# Altium footprint library MSTBV_2.5_5-08.PcbLib: 12 footprints
Each footprint in its own frame and in the unit in brackets; x right, y up, seen from the top. Pads: shape width x height; smd on the part's side, far side on the other; paste and mask are expansions set on the pad; w line width, h text height; cw(c..) or ccw(c..) is an arc to the next point about the centre after c.
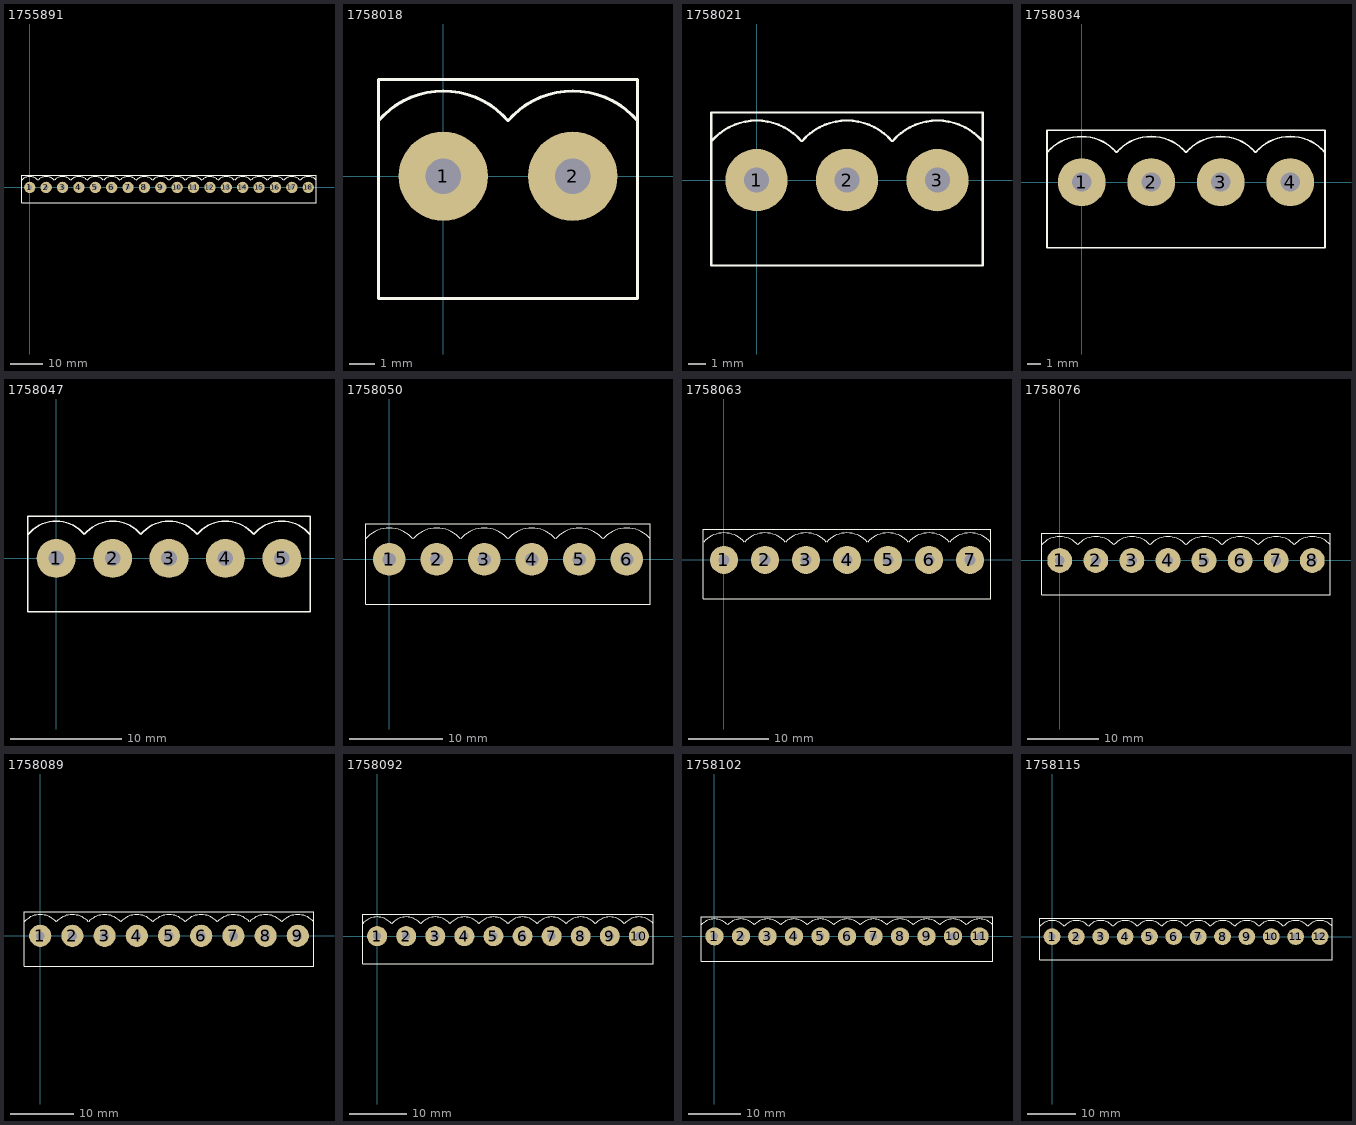
[diagram p0: the footprints below, top view; thin cyan lines are the x and y axes]

## 1755891 [mm] "TERM BLOCK HDR 18POS VERT 5.08MM"
pads (18):
  round 3.5 hole 1.4: 1(0,0) 2(5.08,0) 3(10.16,0) 4(15.24,0) 5(20.32,0) 6(25.4,0) 7(30.48,0) 8(35.56,0) 9(40.64,0) 10(45.72,0) 11(50.8,0) 12(55.88,0) 13(60.96,0) 14(66.04,0) 15(71.12,0) 16(76.2,0) 17(81.28,0) 18(86.36,0)
Top Overlay:
  lines w0.127: -2.527,2.189 cw(c0,0) 2.527,2.189 ; 2.553,2.189 cw(c5.08,0) 7.607,2.189 ; 7.633,2.189 cw(c10.16,0) 12.687,2.189 ; 12.713,2.189 cw(c15.24,0) 17.767,2.189 ; 17.793,2.189 cw(c20.32,0) 22.847,2.189 ; 22.873,2.189 cw(c25.4,0) 27.927,2.189 ; 27.953,2.189 cw(c30.48,0) 33.007,2.189 ; 33.033,2.189 cw(c35.56,0) 38.087,2.189 ; 38.1,-4.8 88.9,-4.8 88.9,3.8 38.1,3.8 ; 43.18,-4.8 -2.54,-4.8 -2.54,3.8 43.18,3.8 ; 43.193,2.189 cw(c45.72,0) 48.247,2.189 ; 48.273,2.189 cw(c50.8,0) 53.327,2.189 ; 53.353,2.189 cw(c55.88,0) 58.407,2.189 ; 58.433,2.189 cw(c60.96,0) 63.487,2.189 ; 63.513,2.189 cw(c66.04,0) 68.567,2.189 ; 68.593,2.189 cw(c71.12,0) 73.647,2.189 ; 73.673,2.189 cw(c76.2,0) 78.727,2.189 ; 78.753,2.189 cw(c81.28,0) 83.807,2.189 ; 83.833,2.189 cw(c86.36,0) 88.887,2.189 ; 38.113,2.189 cw(c40.64,0) 43.167,2.189 ccw(c40.64,0) 38.113,2.189
3D body "1753453.stp": height 12, standoff -3.9, extent 28.06,-4.8 43.06,3.8
3D body "1753453.stp": height 12, standoff -3.9, extent -2.42,-4.8 12.58,3.8
3D body "1753453.stp": height 12, standoff -3.9, extent 7.74,-4.8 22.74,3.8
3D body "1753453.stp": height 12, standoff -3.9, extent 17.9,-4.8 32.9,3.8
3D body "1753453.stp": height 12, standoff -3.9, extent 58.54,-4.8 73.54,3.8
3D body "1753453.stp": height 12, standoff -3.9, extent 68.7,-4.8 83.7,3.8
3D body "1753437.stp": height 12, standoff -3.9, extent 78.82,-4.79 88.82,3.81
3D body "1753453.stp": height 12, standoff -3.9, extent 38.22,-4.8 53.22,3.8
3D body "1753453.stp": height 12, standoff -3.9, extent 48.38,-4.8 63.38,3.8

## 1758018 [mm]
pads (2):
  round 3.5 hole 1.4: 1(0,0) 2(5.08,0)
Top Overlay:
  lines w0.127: -2.527,2.189 cw(c0,0) 2.527,2.189 ; 2.553,2.189 cw(c5.08,0) 7.607,2.189 ; -2.54,-4.8 7.62,-4.8 7.62,3.8 -2.54,3.8 -2.54,-4.8
3D body "1753437.stp": height 12, standoff -3.9, extent -2.46,-4.79 7.54,3.81

## 1758021 [mm]
pads (3):
  round 3.5 hole 1.4: 1(0,0) 2(5.08,0) 3(10.16,0)
Top Overlay:
  lines w0.127: -2.527,2.189 cw(c0,0) 2.527,2.189 ; 2.553,2.189 cw(c5.08,0) 7.607,2.189 ; 7.633,2.189 cw(c10.16,0) 12.687,2.189 ; -2.54,-4.8 -2.54,3.8 12.7,3.8 12.7,-4.8 -2.54,-4.8
3D body "1753453.stp": height 12, standoff -3.9, extent -2.42,-4.8 12.58,3.8

## 1758034 [mm]
pads (4):
  round 3.5 hole 1.4: 1(0,0) 2(5.08,0) 3(10.16,0) 4(15.24,0)
Top Overlay:
  lines w0.127: -2.527,2.189 cw(c0,0) 2.527,2.189 ; 2.553,2.189 cw(c5.08,0) 7.607,2.189 ; 7.633,2.189 cw(c10.16,0) 12.687,2.189 ; 12.713,2.189 cw(c15.24,0) 17.767,2.189 ; -2.54,-4.8 17.78,-4.8 17.78,3.8 -2.54,3.8 -2.54,-4.8
3D body "1753437.stp": height 12, standoff -3.9, extent 7.7,-4.79 17.7,3.81
3D body "1753453.stp": height 12, standoff -3.9, extent -2.42,-4.8 12.58,3.8

## 1758047 [mm]
pads (5):
  round 3.5 hole 1.4: 1(0,0) 2(5.08,0) 3(10.16,0) 4(15.24,0) 5(20.32,0)
Top Overlay:
  lines w0.127: -2.527,2.189 cw(c0,0) 2.527,2.189 ; 2.553,2.189 cw(c5.08,0) 7.607,2.189 ; 7.633,2.189 cw(c10.16,0) 12.687,2.189 ; 12.713,2.189 cw(c15.24,0) 17.767,2.189 ; 17.793,2.189 cw(c20.32,0) 22.847,2.189 ; -2.54,-4.8 -2.54,3.8 22.86,3.8 22.86,-4.8 -2.54,-4.8
3D body "1753453.stp": height 12, standoff -3.9, extent -2.42,-4.8 12.58,3.8
3D body "1753453.stp": height 12, standoff -3.9, extent 7.74,-4.8 22.74,3.8

## 1758050 [mm]
pads (6):
  round 3.5 hole 1.4: 1(0,0) 2(5.08,0) 3(10.16,0) 4(15.24,0) 5(20.32,0) 6(25.4,0)
Top Overlay:
  lines w0.127: -2.527,2.189 cw(c0,0) 2.527,2.189 ; 2.553,2.189 cw(c5.08,0) 7.607,2.189 ; 7.633,2.189 cw(c10.16,0) 12.687,2.189 ; 12.713,2.189 cw(c15.24,0) 17.767,2.189 ; 17.793,2.189 cw(c20.32,0) 22.847,2.189 ; 22.873,2.189 cw(c25.4,0) 27.927,2.189 ; -2.54,-4.8 27.94,-4.8 27.94,3.8 -2.54,3.8 -2.54,-4.8
3D body "1753453.stp": height 12, standoff -3.9, extent 7.74,-4.8 22.74,3.8
3D body "1753453.stp": height 12, standoff -3.9, extent -2.42,-4.8 12.58,3.8
3D body "1753437.stp": height 12, standoff -3.9, extent 17.86,-4.79 27.86,3.81

## 1758063 [mm]
pads (7):
  round 3.5 hole 1.4: 1(0,0) 2(5.08,0) 3(10.16,0) 4(15.24,0) 5(20.32,0) 6(25.4,0) 7(30.48,0)
Top Overlay:
  lines w0.127: -2.527,2.189 cw(c0,0) 2.527,2.189 ; 2.553,2.189 cw(c5.08,0) 7.607,2.189 ; 7.633,2.189 cw(c10.16,0) 12.687,2.189 ; 12.713,2.189 cw(c15.24,0) 17.767,2.189 ; 17.793,2.189 cw(c20.32,0) 22.847,2.189 ; 22.873,2.189 cw(c25.4,0) 27.927,2.189 ; 27.953,2.189 cw(c30.48,0) 33.007,2.189 ; -2.54,-4.8 33.02,-4.8 33.02,3.8 -2.54,3.8 -2.54,-4.8
3D body "1753453.stp": height 12, standoff -3.9, extent 17.9,-4.8 32.9,3.8
3D body "1753453.stp": height 12, standoff -3.9, extent 7.74,-4.8 22.74,3.8
3D body "1753453.stp": height 12, standoff -3.9, extent -2.42,-4.8 12.58,3.8

## 1758076 [mm]
pads (8):
  round 3.5 hole 1.4: 1(0,0) 2(5.08,0) 3(10.16,0) 4(15.24,0) 5(20.32,0) 6(25.4,0) 7(30.48,0) 8(35.56,0)
Top Overlay:
  lines w0.127: -2.527,2.189 cw(c0,0) 2.527,2.189 ; 2.553,2.189 cw(c5.08,0) 7.607,2.189 ; 7.633,2.189 cw(c10.16,0) 12.687,2.189 ; 12.713,2.189 cw(c15.24,0) 17.767,2.189 ; 17.793,2.189 cw(c20.32,0) 22.847,2.189 ; 22.873,2.189 cw(c25.4,0) 27.927,2.189 ; 27.953,2.189 cw(c30.48,0) 33.007,2.189 ; 33.033,2.189 cw(c35.56,0) 38.087,2.189 ; -2.54,-4.8 38.1,-4.8 38.1,3.8 -2.54,3.8 -2.54,-4.8
3D body "1753453.stp": height 12, standoff -3.9, extent 17.9,-4.8 32.9,3.8
3D body "1753453.stp": height 12, standoff -3.9, extent 7.74,-4.8 22.74,3.8
3D body "1753453.stp": height 12, standoff -3.9, extent -2.42,-4.8 12.58,3.8
3D body "1753437.stp": height 12, standoff -3.9, extent 28.02,-4.79 38.02,3.81

## 1758089 [mm]
pads (9):
  round 3.5 hole 1.4: 1(0,0) 2(5.08,0) 3(10.16,0) 4(15.24,0) 5(20.32,0) 6(25.4,0) 7(30.48,0) 8(35.56,0) 9(40.64,0)
Top Overlay:
  lines w0.127: -2.527,2.189 cw(c0,0) 2.527,2.189 ; 2.553,2.189 cw(c5.08,0) 7.607,2.189 ; 7.633,2.189 cw(c10.16,0) 12.687,2.189 ; 12.713,2.189 cw(c15.24,0) 17.767,2.189 ; 17.793,2.189 cw(c20.32,0) 22.847,2.189 ; 22.873,2.189 cw(c25.4,0) 27.927,2.189 ; 27.953,2.189 cw(c30.48,0) 33.007,2.189 ; 33.033,2.189 cw(c35.56,0) 38.087,2.189 ; 38.113,2.189 cw(c40.64,0) 43.167,2.189 ; -2.54,-4.8 43.18,-4.8 43.18,3.8 -2.54,3.8 -2.54,-4.8
3D body "1753453.stp": height 12, standoff -3.9, extent 17.9,-4.8 32.9,3.8
3D body "1753453.stp": height 12, standoff -3.9, extent 7.74,-4.8 22.74,3.8
3D body "1753453.stp": height 12, standoff -3.9, extent -2.42,-4.8 12.58,3.8
3D body "1753453.stp": height 12, standoff -3.9, extent 28.06,-4.8 43.06,3.8

## 1758092 [mm]
pads (10):
  round 3.5 hole 1.4: 1(0,0) 2(5.08,0) 3(10.16,0) 4(15.24,0) 5(20.32,0) 6(25.4,0) 7(30.48,0) 8(35.56,0) 9(40.64,0) 10(45.72,0)
Top Overlay:
  lines w0.127: -2.527,2.189 cw(c0,0) 2.527,2.189 ; 2.553,2.189 cw(c5.08,0) 7.607,2.189 ; 7.633,2.189 cw(c10.16,0) 12.687,2.189 ; 12.713,2.189 cw(c15.24,0) 17.767,2.189 ; 17.793,2.189 cw(c20.32,0) 22.847,2.189 ; 22.873,2.189 cw(c25.4,0) 27.927,2.189 ; 27.953,2.189 cw(c30.48,0) 33.007,2.189 ; 33.033,2.189 cw(c35.56,0) 38.087,2.189 ; 38.113,2.189 cw(c40.64,0) 43.167,2.189 ; 43.193,2.189 cw(c45.72,0) 48.247,2.189 ; -2.54,-4.8 48.26,-4.8 48.26,3.8 -2.54,3.8 -2.54,-4.8
3D body "1753453.stp": height 12, standoff -3.9, extent 17.9,-4.8 32.9,3.8
3D body "1753453.stp": height 12, standoff -3.9, extent 7.74,-4.8 22.74,3.8
3D body "1753453.stp": height 12, standoff -3.9, extent -2.42,-4.8 12.58,3.8
3D body "1753453.stp": height 12, standoff -3.9, extent 28.06,-4.8 43.06,3.8
3D body "1753437.stp": height 12, standoff -3.9, extent 38.18,-4.79 48.18,3.81

## 1758102 [mm]
pads (11):
  round 3.5 hole 1.4: 1(0,0) 2(5.08,0) 3(10.16,0) 4(15.24,0) 5(20.32,0) 6(25.4,0) 7(30.48,0) 8(35.56,0) 9(40.64,0) 10(45.72,0) 11(50.8,0)
Top Overlay:
  lines w0.127: -2.527,2.189 cw(c0,0) 2.527,2.189 ; 2.553,2.189 cw(c5.08,0) 7.607,2.189 ; 7.633,2.189 cw(c10.16,0) 12.687,2.189 ; 12.713,2.189 cw(c15.24,0) 17.767,2.189 ; 17.793,2.189 cw(c20.32,0) 22.847,2.189 ; 22.873,2.189 cw(c25.4,0) 27.927,2.189 ; 27.953,2.189 cw(c30.48,0) 33.007,2.189 ; 33.033,2.189 cw(c35.56,0) 38.087,2.189 ; 38.113,2.189 cw(c40.64,0) 43.167,2.189 ; 43.193,2.189 cw(c45.72,0) 48.247,2.189 ; 48.273,2.189 cw(c50.8,0) 53.327,2.189 ; -2.54,-4.8 -2.54,3.8 53.34,3.8 53.34,-4.8 -2.54,-4.8
3D body "1753453.stp": height 12, standoff -3.9, extent 38.22,-4.8 53.22,3.8
3D body "1753453.stp": height 12, standoff -3.9, extent 28.06,-4.8 43.06,3.8
3D body "1753453.stp": height 12, standoff -3.9, extent -2.42,-4.8 12.58,3.8
3D body "1753453.stp": height 12, standoff -3.9, extent 7.74,-4.8 22.74,3.8
3D body "1753453.stp": height 12, standoff -3.9, extent 17.9,-4.8 32.9,3.8

## 1758115 [mm]
pads (12):
  round 3.5 hole 1.4: 1(0,0) 2(5.08,0) 3(10.16,0) 4(15.24,0) 5(20.32,0) 6(25.4,0) 7(30.48,0) 8(35.56,0) 9(40.64,0) 10(45.72,0) 11(50.8,0) 12(55.88,0)
Top Overlay:
  lines w0.127: -2.527,2.189 cw(c0,0) 2.527,2.189 ; 2.553,2.189 cw(c5.08,0) 7.607,2.189 ; 7.633,2.189 cw(c10.16,0) 12.687,2.189 ; 12.713,2.189 cw(c15.24,0) 17.767,2.189 ; 17.793,2.189 cw(c20.32,0) 22.847,2.189 ; 22.873,2.189 cw(c25.4,0) 27.927,2.189 ; 27.953,2.189 cw(c30.48,0) 33.007,2.189 ; 33.033,2.189 cw(c35.56,0) 38.087,2.189 ; 38.113,2.189 cw(c40.64,0) 43.167,2.189 ; 43.193,2.189 cw(c45.72,0) 48.247,2.189 ; 48.273,2.189 cw(c50.8,0) 53.327,2.189 ; 53.353,2.189 cw(c55.88,0) 58.407,2.189 ; -2.54,-4.8 58.42,-4.8 58.42,3.8 -2.54,3.8 -2.54,-4.8
3D body "1753437.stp": height 12, standoff -3.9, extent 48.34,-4.79 58.34,3.81
3D body "1753453.stp": height 12, standoff -3.9, extent 17.9,-4.8 32.9,3.8
3D body "1753453.stp": height 12, standoff -3.9, extent 7.74,-4.8 22.74,3.8
3D body "1753453.stp": height 12, standoff -3.9, extent -2.42,-4.8 12.58,3.8
3D body "1753453.stp": height 12, standoff -3.9, extent 28.06,-4.8 43.06,3.8
3D body "1753453.stp": height 12, standoff -3.9, extent 38.22,-4.8 53.22,3.8